# EAGLE library part HEADER6 (library usevolt)
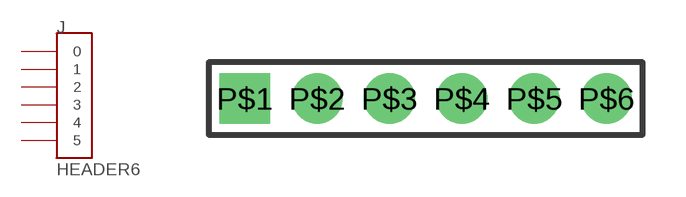
[diagram p1: symbol with the pads of HEADER6_1; footprint HEADER6_1]

Designator prefix J

## HEADER66_1  [HEADER6_1]
P$1  0
P$2  1
P$3  2
P$4  3
P$5  4
P$6  5

## Footprint HEADER6_1 (pad centres in mm)
drill 1 pad 1.778 square: P$1 -6.35,0
drill 1 pad 1.778: P$2 -3.81,0; P$3 -1.27,0; P$4 1.27,0; P$5 3.81,0; P$6 6.35,0